# Altium footprint library HARWIN_GECKO_5x2.PcbLib: 1 footprints
Each footprint in its own frame and in the unit in brackets; x right, y up, seen from the top. Pads: shape width x height; smd on the part's side, far side on the other; paste and mask are expansions set on the pad; w line width, h text height; cw(c..) or ccw(c..) is an arc to the next point about the centre after c.
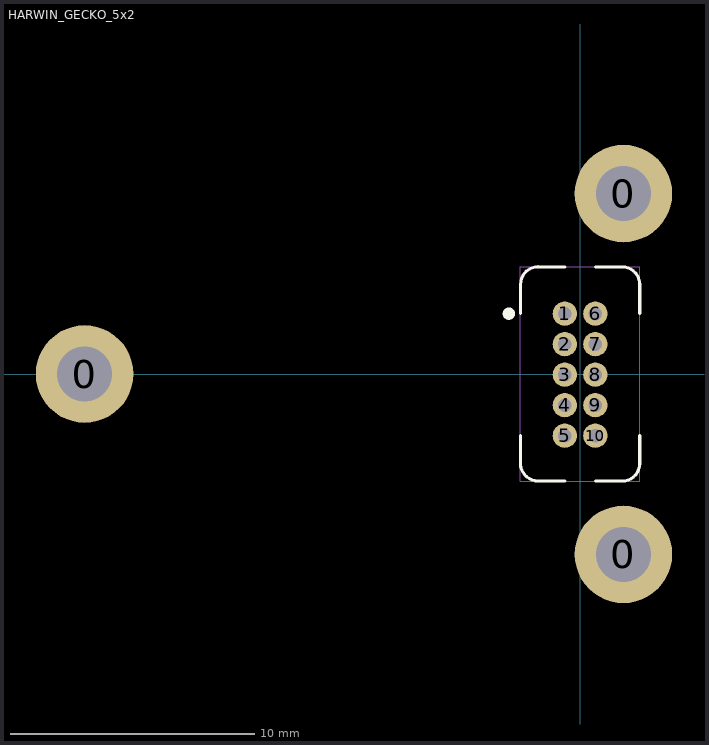
[diagram p0: the footprint, top view; thin cyan lines are the x and y axes]

## HARWIN_GECKO_5x2 [mm] "Harwin Gecko connector, 10-pin, thru hole"
pads (13):
  round 4 hole 2.25: 0(-20.325,0) 0(1.775,-7.4) 0(1.775,7.4)
  round 1 hole 0.55: 1(-0.625,2.475) 2(-0.625,1.225) 3(-0.625,-0.025) 4(-0.625,-1.275) 5(-0.625,-2.525) 6(0.625,2.475) 7(0.625,1.225) 8(0.625,-0.025) 9(0.625,-1.275) 10(0.625,-2.525)
Top Overlay:
  circle w0.254: c-2.925,2.475 r0.125
  lines w0.127: -2.449,-2.525 -2.449,-3.665 ccw(c-1.725,-3.664) -1.725,-4.388 -0.625,-4.388 ; -2.444,2.475 -2.444,3.675 cw(c-1.72,3.675) -1.721,4.399 -0.625,4.394 ; 0.625,-4.393 1.721,-4.393 ccw(c1.72,-3.669) 2.444,-3.669 2.444,-2.525 ; 0.625,4.394 1.721,4.394 cw(c1.721,3.67) 2.445,3.671 2.444,2.475
Mechanical 15:
  lines w0.051: -2.45,-4.4 -2.45,4.4 0,4.4 2.45,4.4 2.45,-4.4 0,-4.4 -2.45,-4.4
3D body: height 0.25, standoff -26.8, extent -3,0.5 -3,0.5
3D body "ELLIPSE-Micro.SLDPRT": height 9.8, standoff 0, extent -22.3,-9.4 4.5,9.4